# EAGLE library part 8002 (library mille-feuille)
2.0 Watt Audio Power Amplifier
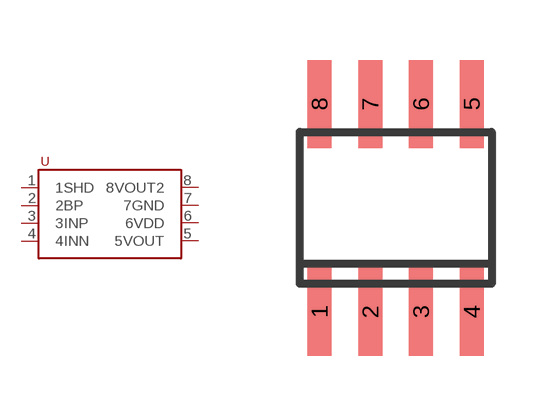
[diagram p35: symbol with the pads of SO-8; footprint SO-8]

Designator prefix U

## 8002  [SO-8]
1  1SHD
2  2BP
3  3INP
4  4INN
5  5VOUT
6  6VDD
7  7GND
8  8VOUT2

## Footprint SO-8 (pad centres in mm)
smd 0.6 x 2.2: 1 -1.905,-2.6; 2 -0.635,-2.6; 3 0.635,-2.6; 4 1.905,-2.6; 5 1.905,2.6; 6 0.635,2.6; 7 -0.635,2.6; 8 -1.905,2.6